# Altium footprint library Net-Tie-I2.PcbLib: 50 footprints (part 3 of 4)
Each footprint in its own frame and in the unit in brackets; x right, y up, seen from the top. Pads: shape width x height; smd on the part's side, far side on the other; paste and mask are expansions set on the pad; w line width, h text height; cw(c..) or ccw(c..) is an arc to the next point about the centre after c.
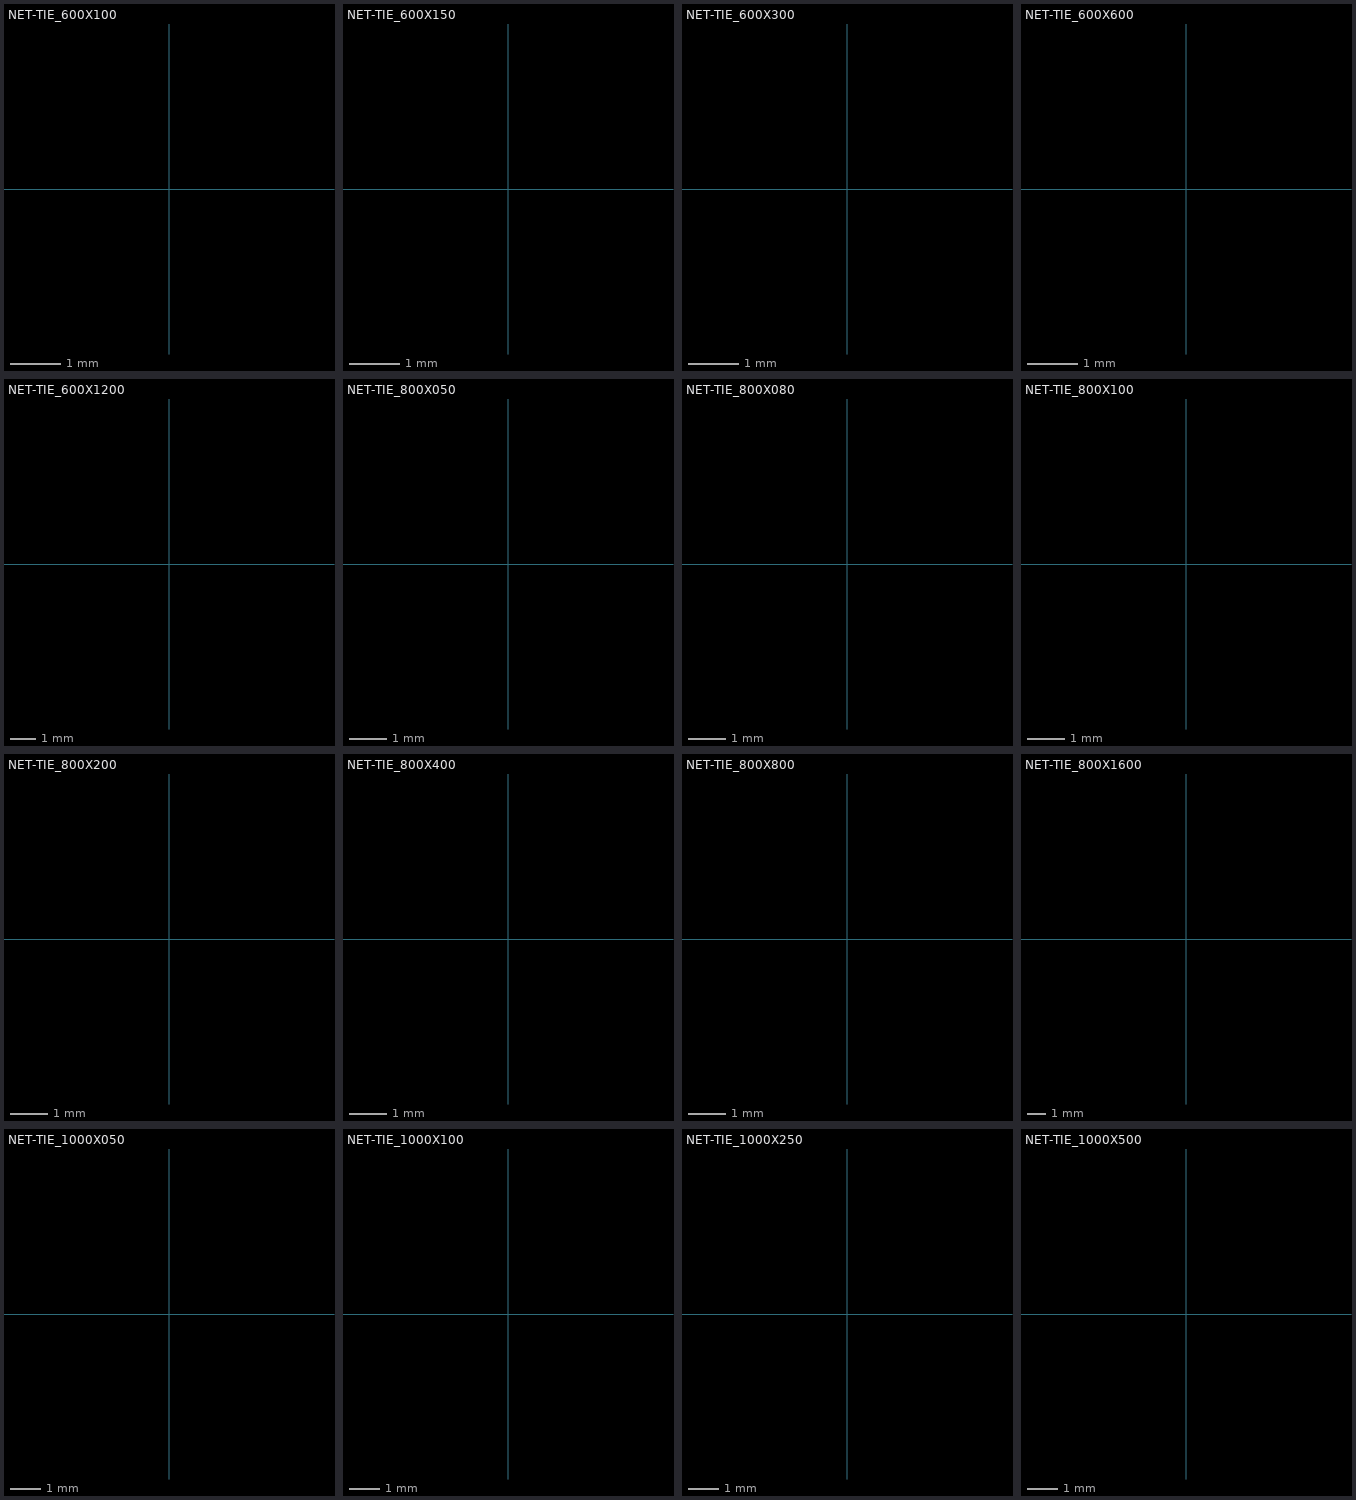
[diagram p2: the footprints below, top view; thin cyan lines are the x and y axes]

## NET-TIE_600X100 [mil]
pads (2):
  round 1 on Mid2 paste-99999 mask+4: 1(-9.84,0) 2(9.84,0)
Inner 2:
  region: -19.68,-108.27 -19.68,-109.24 -19.31,-111.14 -18.56,-112.93 -17.49,-114.54 -16.12,-115.91 -14.5,-116.99 -12.71,-117.73 -10.81,-118.11 -9.84,-118.11 0,-118.11 0,118.11 -9.84,118.11 -10.81,118.11 -12.71,117.73 -14.5,116.99 -16.12,115.91 -17.49,114.54 -18.56,112.93 -19.31,111.14 -19.68,109.24 -19.68,108.27
  region: 9.84,-118.11 0,-118.11 0,118.11 9.84,118.11 10.81,118.11 12.71,117.73 14.5,116.99 16.12,115.91 17.49,114.54 18.56,112.93 19.31,111.14 19.68,109.24 19.68,108.27 19.68,-108.27 19.68,-109.24 19.31,-111.14 18.56,-112.93 17.49,-114.54 16.12,-115.91 14.5,-116.99 12.71,-117.73 10.81,-118.11

## NET-TIE_600X150 [mil]
pads (2):
  round 1 on Mid2 paste-99999 mask+4: 1(-14.76,0) 2(14.76,0)
Inner 2:
  region: 14.76,-118.11 0,-118.11 0,118.11 14.76,118.11 16.22,118.11 19.07,117.54 21.76,116.43 24.18,114.81 26.23,112.76 27.85,110.34 28.96,107.65 29.53,104.8 29.53,103.35 29.53,-103.35 29.53,-104.8 28.96,-107.65 27.85,-110.34 26.23,-112.76 24.18,-114.81 21.76,-116.43 19.07,-117.54 16.22,-118.11
  region: -29.53,-103.35 -29.53,-104.8 -28.96,-107.65 -27.85,-110.34 -26.23,-112.76 -24.18,-114.81 -21.76,-116.43 -19.07,-117.54 -16.22,-118.11 -14.76,-118.11 0,-118.11 0,118.11 -14.76,118.11 -16.22,118.11 -19.07,117.54 -21.76,116.43 -24.18,114.81 -26.23,112.76 -27.85,110.34 -28.96,107.65 -29.53,104.8 -29.53,103.35

## NET-TIE_600X300 [mil]
pads (2):
  round 1 on Mid2 paste-99999 mask+4: 1(-29.53,0) 2(29.53,0)
Inner 2:
  region: 29.53,-118.11 0,-118.11 0,118.11 29.53,118.11 31.46,118.11 35.3,117.61 39.04,116.6 42.62,115.12 45.97,113.19 49.04,110.83 51.78,108.09 54.13,105.02 56.07,101.67 57.55,98.09 58.55,94.36 59.06,90.52 59.06,88.58 59.06,-88.58 59.06,-90.52 58.55,-94.36 57.55,-98.09 56.07,-101.67 54.13,-105.02 51.78,-108.09 49.04,-110.83 45.97,-113.19 42.62,-115.12 39.04,-116.6 35.3,-117.61 31.46,-118.11
  region: -59.06,-88.58 -59.06,-90.52 -58.55,-94.36 -57.55,-98.09 -56.07,-101.67 -54.13,-105.02 -51.78,-108.09 -49.04,-110.83 -45.97,-113.19 -42.62,-115.12 -39.04,-116.6 -35.3,-117.61 -31.46,-118.11 -29.53,-118.11 0,-118.11 0,118.11 -29.53,118.11 -31.46,118.11 -35.3,117.61 -39.04,116.6 -42.62,115.12 -45.97,113.19 -49.04,110.83 -51.78,108.09 -54.13,105.02 -56.07,101.67 -57.55,98.09 -58.55,94.36 -59.06,90.52 -59.06,88.58

## NET-TIE_600X600 [mil]
pads (2):
  round 1 on Mid2 paste-99999 mask+4: 1(-59.06,0) 2(59.06,0)
Inner 2:
  region: 59.06,-118.11 0,-118.11 0,118.11 59.06,118.11 61.96,118.11 67.73,117.54 73.42,116.41 78.97,114.73 84.33,112.5 89.45,109.77 94.28,106.55 98.76,102.86 102.86,98.76 106.55,94.28 109.77,89.45 112.5,84.33 114.73,78.97 116.41,73.42 117.54,67.73 118.11,61.96 118.11,59.06 118.11,-59.06 118.11,-61.96 117.54,-67.73 116.41,-73.42 114.73,-78.97 112.5,-84.33 109.77,-89.45 106.55,-94.28 102.86,-98.76 98.76,-102.86 94.28,-106.55 89.45,-109.77 84.33,-112.5 78.97,-114.73 73.42,-116.41 67.73,-117.54 61.96,-118.11
  region: -118.11,-59.06 -118.11,-61.96 -117.54,-67.73 -116.41,-73.42 -114.73,-78.97 -112.5,-84.33 -109.77,-89.45 -106.55,-94.28 -102.86,-98.76 -98.76,-102.86 -94.28,-106.55 -89.45,-109.77 -84.33,-112.5 -78.97,-114.73 -73.42,-116.41 -67.73,-117.54 -61.96,-118.11 -59.06,-118.11 0,-118.11 0,118.11 -59.06,118.11 -61.96,118.11 -67.73,117.54 -73.42,116.41 -78.97,114.73 -84.33,112.5 -89.45,109.77 -94.28,106.55 -98.76,102.86 -102.86,98.76 -106.55,94.28 -109.77,89.45 -112.5,84.33 -114.73,78.97 -116.41,73.42 -117.54,67.73 -118.11,61.96 -118.11,59.06

## NET-TIE_600X1200 [mil]
pads (2):
  round 1 on Mid2 paste-99999 mask+4: 1(-118.11,0) 2(118.11,0)
Inner 2:
  region: 118.11,-118.11 0,-118.11 0,118.11 118.11,118.11 122.75,118.11 132,117.38 141.17,115.93 150.19,113.76 159.02,110.9 167.6,107.34 175.87,103.13 183.78,98.28 191.29,92.83 198.35,86.8 204.91,80.24 210.94,73.18 216.39,65.67 221.24,57.76 225.45,49.49 229.01,40.91 231.87,32.08 234.04,23.06 235.49,13.89 236.22,4.64 236.22,0 236.22,-4.64 235.49,-13.89 234.04,-23.06 231.87,-32.08 229.01,-40.91 225.45,-49.49 221.24,-57.76 216.39,-65.67 210.94,-73.18 204.91,-80.24 198.35,-86.8 191.29,-92.83 183.78,-98.28 175.87,-103.13 167.6,-107.34 159.02,-110.9 150.19,-113.76 141.17,-115.93 132,-117.38 122.75,-118.11
  region: -118.11,-118.11 -122.75,-118.11 -132,-117.38 -141.17,-115.93 -150.19,-113.76 -159.02,-110.9 -167.6,-107.34 -175.87,-103.13 -183.78,-98.28 -191.29,-92.83 -198.35,-86.8 -204.91,-80.24 -210.94,-73.18 -216.39,-65.67 -221.24,-57.76 -225.45,-49.49 -229.01,-40.91 -231.87,-32.08 -234.04,-23.06 -235.49,-13.89 -236.22,-4.64 -236.22,0 -236.22,4.64 -235.49,13.89 -234.04,23.06 -231.87,32.08 -229.01,40.91 -225.45,49.49 -221.24,57.76 -216.39,65.67 -210.94,73.18 -204.91,80.24 -198.35,86.8 -191.29,92.83 -183.78,98.28 -175.87,103.13 -167.6,107.34 -159.02,110.9 -150.19,113.76 -141.17,115.93 -132,117.38 -122.75,118.11 -118.11,118.11 0,118.11 0,-118.11

## NET-TIE_800X050 [mil]
pads (2):
  round 1 on Mid2 paste-99999 mask+4: 1(-4.92,0) 2(4.92,0)
Inner 2:
  region: -9.84,-152.56 -9.84,-153.54 -9.09,-155.35 -7.71,-156.73 -5.9,-157.48 -4.92,-157.48 0,-157.48 0,157.48 -4.92,157.48 -5.9,157.48 -7.71,156.73 -9.09,155.35 -9.84,153.54 -9.84,152.56
  region: 4.92,-157.48 0,-157.48 0,157.48 4.92,157.48 5.9,157.48 7.71,156.73 9.09,155.35 9.84,153.54 9.84,152.56 9.84,-152.56 9.84,-153.54 9.09,-155.35 7.71,-156.73 5.9,-157.48

## NET-TIE_800X080 [mil]
pads (2):
  round 1 on Mid2 paste-99999 mask+4: 1(-7.87,0) 2(7.87,0)
Inner 2:
  region: -15.75,-149.61 -15.75,-150.38 -15.45,-151.9 -14.85,-153.34 -13.99,-154.63 -12.89,-155.72 -11.6,-156.58 -10.17,-157.18 -8.65,-157.48 -7.87,-157.48 0,-157.48 0,157.48 -7.87,157.48 -8.65,157.48 -10.17,157.18 -11.6,156.58 -12.89,155.72 -13.99,154.63 -14.85,153.34 -15.45,151.9 -15.75,150.38 -15.75,149.61
  region: 7.87,-157.48 0,-157.48 0,157.48 7.87,157.48 8.65,157.48 10.17,157.18 11.6,156.58 12.89,155.72 13.99,154.63 14.85,153.34 15.45,151.9 15.75,150.38 15.75,149.61 15.75,-149.61 15.75,-150.38 15.45,-151.9 14.85,-153.34 13.99,-154.63 12.89,-155.72 11.6,-156.58 10.17,-157.18 8.65,-157.48

## NET-TIE_800X100 [mil]
pads (2):
  round 1 on Mid2 paste-99999 mask+4: 1(-9.84,0) 2(9.84,0)
Inner 2:
  region: -19.68,-147.64 -19.68,-148.61 -19.31,-150.51 -18.56,-152.3 -17.49,-153.91 -16.12,-155.28 -14.5,-156.36 -12.71,-157.1 -10.81,-157.48 -9.84,-157.48 0,-157.48 0,157.48 -9.84,157.48 -10.81,157.48 -12.71,157.1 -14.5,156.36 -16.12,155.28 -17.49,153.91 -18.56,152.3 -19.31,150.51 -19.68,148.61 -19.68,147.64
  region: 9.84,-157.48 0,-157.48 0,157.48 9.84,157.48 10.81,157.48 12.71,157.1 14.5,156.36 16.12,155.28 17.49,153.91 18.56,152.3 19.31,150.51 19.68,148.61 19.68,147.64 19.68,-147.64 19.68,-148.61 19.31,-150.51 18.56,-152.3 17.49,-153.91 16.12,-155.28 14.5,-156.36 12.71,-157.1 10.81,-157.48

## NET-TIE_800X200 [mil]
pads (2):
  round 1 on Mid2 paste-99999 mask+4: 1(-19.68,0) 2(19.68,0)
Inner 2:
  region: 19.68,-157.48 0,-157.48 0,157.48 19.68,157.48 21.62,157.48 25.43,156.72 29.01,155.24 32.23,153.09 34.98,150.34 37.13,147.12 38.61,143.54 39.37,139.73 39.37,137.8 39.37,-137.8 39.37,-139.73 38.61,-143.54 37.13,-147.12 34.98,-150.34 32.23,-153.09 29.01,-155.24 25.43,-156.72 21.62,-157.48
  region: -39.37,-137.8 -39.37,-139.73 -38.61,-143.54 -37.13,-147.12 -34.98,-150.34 -32.23,-153.09 -29.01,-155.24 -25.43,-156.72 -21.62,-157.48 -19.68,-157.48 0,-157.48 0,157.48 -19.68,157.48 -21.62,157.48 -25.43,156.72 -29.01,155.24 -32.23,153.09 -34.98,150.34 -37.13,147.12 -38.61,143.54 -39.37,139.73 -39.37,137.8

## NET-TIE_800X400 [mil]
pads (2):
  round 1 on Mid2 paste-99999 mask+4: 1(-39.37,0) 2(39.37,0)
Inner 2:
  region: 39.37,-157.48 0,-157.48 0,157.48 39.37,157.48 41.95,157.48 47.07,156.81 52.05,155.47 56.82,153.5 61.29,150.92 65.38,147.77 69.03,144.12 72.18,140.03 74.76,135.56 76.73,130.79 78.07,125.81 78.74,120.69 78.74,118.11 78.74,-118.11 78.74,-120.69 78.07,-125.81 76.73,-130.79 74.76,-135.56 72.18,-140.03 69.03,-144.12 65.38,-147.77 61.29,-150.92 56.82,-153.5 52.05,-155.47 47.07,-156.81 41.95,-157.48
  region: -78.74,-118.11 -78.74,-120.69 -78.07,-125.81 -76.73,-130.79 -74.76,-135.56 -72.18,-140.03 -69.03,-144.12 -65.38,-147.77 -61.29,-150.92 -56.82,-153.5 -52.05,-155.47 -47.07,-156.81 -41.95,-157.48 -39.37,-157.48 0,-157.48 0,157.48 -39.37,157.48 -41.95,157.48 -47.07,156.81 -52.05,155.47 -56.82,153.5 -61.29,150.92 -65.38,147.77 -69.03,144.12 -72.18,140.03 -74.76,135.56 -76.73,130.79 -78.07,125.81 -78.74,120.69 -78.74,118.11

## NET-TIE_800X800 [mil]
pads (2):
  round 1 on Mid2 paste-99999 mask+4: 1(-78.74,0) 2(78.74,0)
Inner 2:
  region: -157.48,-78.74 -157.48,-82.61 -156.72,-90.31 -155.21,-97.9 -152.97,-105.3 -150.01,-112.45 -146.36,-119.27 -142.06,-125.7 -137.15,-131.68 -131.68,-137.15 -125.7,-142.06 -119.27,-146.36 -112.45,-150.01 -105.3,-152.97 -97.9,-155.21 -90.31,-156.72 -82.61,-157.48 -78.74,-157.48 0,-157.48 0,157.48 -78.74,157.48 -82.61,157.48 -90.31,156.72 -97.9,155.21 -105.3,152.97 -112.45,150.01 -119.27,146.36 -125.7,142.06 -131.68,137.15 -137.15,131.68 -142.06,125.7 -146.36,119.27 -150.01,112.45 -152.97,105.3 -155.21,97.9 -156.72,90.31 -157.48,82.61 -157.48,78.74
  region: 78.74,-157.48 0,-157.48 0,157.48 78.74,157.48 82.61,157.48 90.31,156.72 97.9,155.21 105.3,152.97 112.45,150.01 119.27,146.36 125.7,142.06 131.68,137.15 137.15,131.68 142.06,125.7 146.36,119.27 150.01,112.45 152.97,105.3 155.21,97.9 156.72,90.31 157.48,82.61 157.48,78.74 157.48,-78.74 157.48,-82.61 156.72,-90.31 155.21,-97.9 152.97,-105.3 150.01,-112.45 146.36,-119.27 142.06,-125.7 137.15,-131.68 131.68,-137.15 125.7,-142.06 119.27,-146.36 112.45,-150.01 105.3,-152.97 97.9,-155.21 90.31,-156.72 82.61,-157.48

## NET-TIE_800X1600 [mil]
pads (2):
  round 1 on Mid2 paste-99999 mask+4: 1(-157.48,0) 2(157.48,0)
Inner 2:
  region: 157.48,-157.48 0,-157.48 0,157.48 157.48,157.48 162.64,157.48 172.92,156.81 183.15,155.46 193.26,153.45 203.22,150.78 212.98,147.47 222.51,143.52 231.76,138.96 240.69,133.8 249.26,128.08 257.44,121.8 265.19,115 272.48,107.71 279.28,99.96 285.56,91.78 291.28,83.2 296.44,74.28 301,65.03 304.95,55.5 308.26,45.74 310.93,35.78 312.94,25.67 314.29,15.44 314.96,5.16 314.96,0 314.96,-5.16 314.29,-15.44 312.94,-25.67 310.93,-35.78 308.26,-45.74 304.95,-55.5 301,-65.03 296.44,-74.28 291.28,-83.2 285.56,-91.78 279.28,-99.96 272.48,-107.71 265.19,-115 257.44,-121.8 249.26,-128.08 240.69,-133.8 231.76,-138.96 222.51,-143.52 212.98,-147.47 203.22,-150.78 193.26,-153.45 183.15,-155.46 172.92,-156.81 162.64,-157.48
  region: -157.48,-157.48 -162.64,-157.48 -172.92,-156.81 -183.15,-155.46 -193.26,-153.45 -203.22,-150.78 -212.98,-147.47 -222.51,-143.52 -231.76,-138.96 -240.69,-133.8 -249.26,-128.08 -257.44,-121.8 -265.19,-115 -272.48,-107.71 -279.28,-99.96 -285.56,-91.78 -291.28,-83.2 -296.44,-74.28 -301,-65.03 -304.95,-55.5 -308.26,-45.74 -310.93,-35.78 -312.94,-25.67 -314.29,-15.44 -314.96,-5.16 -314.96,0 -314.96,5.16 -314.29,15.44 -312.94,25.67 -310.93,35.78 -308.26,45.74 -304.95,55.5 -301,65.03 -296.44,74.28 -291.28,83.2 -285.56,91.78 -279.28,99.96 -272.48,107.71 -265.19,115 -257.44,121.8 -249.26,128.08 -240.69,133.8 -231.76,138.96 -222.51,143.52 -212.98,147.47 -203.22,150.78 -193.26,153.45 -183.15,155.46 -172.92,156.81 -162.64,157.48 -157.48,157.48 0,157.48 0,-157.48

## NET-TIE_1000X050 [mil]
pads (2):
  round 1 on Mid2 paste-99999 mask+4: 1(-4.92,0) 2(4.92,0)
Inner 2:
  region: -9.84,-191.93 -9.84,-192.91 -9.09,-194.72 -7.71,-196.1 -5.9,-196.85 -4.92,-196.85 0,-196.85 0,196.85 -4.92,196.85 -5.9,196.85 -7.71,196.1 -9.09,194.72 -9.84,192.91 -9.84,191.93
  region: 4.92,-196.85 0,-196.85 0,196.85 4.92,196.85 5.9,196.85 7.71,196.1 9.09,194.72 9.84,192.91 9.84,191.93 9.84,-191.93 9.84,-192.91 9.09,-194.72 7.71,-196.1 5.9,-196.85

## NET-TIE_1000X100 [mil]
pads (2):
  round 1 on Mid2 paste-99999 mask+4: 1(-9.84,0) 2(9.84,0)
Inner 2:
  region: -19.68,-187.01 -19.68,-187.98 -19.31,-189.88 -18.56,-191.67 -17.49,-193.28 -16.12,-194.65 -14.5,-195.73 -12.71,-196.47 -10.81,-196.85 -9.84,-196.85 0,-196.85 0,196.85 -9.84,196.85 -10.81,196.85 -12.71,196.47 -14.5,195.73 -16.12,194.65 -17.49,193.28 -18.56,191.67 -19.31,189.88 -19.68,187.98 -19.68,187.01
  region: 9.84,-196.85 0,-196.85 0,196.85 9.84,196.85 10.81,196.85 12.71,196.47 14.5,195.73 16.12,194.65 17.49,193.28 18.56,191.67 19.31,189.88 19.68,187.98 19.68,187.01 19.68,-187.01 19.68,-187.98 19.31,-189.88 18.56,-191.67 17.49,-193.28 16.12,-194.65 14.5,-195.73 12.71,-196.47 10.81,-196.85

## NET-TIE_1000X250 [mil]
pads (2):
  round 1 on Mid2 paste-99999 mask+4: 1(-24.61,0) 2(24.61,0)
Inner 2:
  region: -49.21,-172.24 -49.21,-173.86 -48.79,-177.05 -47.96,-180.17 -46.72,-183.15 -45.11,-185.94 -43.15,-188.5 -40.87,-190.78 -38.31,-192.75 -35.51,-194.36 -32.53,-195.59 -29.42,-196.43 -26.22,-196.85 -24.61,-196.85 0,-196.85 0,196.85 -24.61,196.85 -26.22,196.85 -29.42,196.43 -32.53,195.59 -35.51,194.36 -38.31,192.75 -40.87,190.78 -43.15,188.5 -45.11,185.94 -46.72,183.15 -47.96,180.17 -48.79,177.05 -49.21,173.86 -49.21,172.24
  region: 24.61,-196.85 0,-196.85 0,196.85 24.61,196.85 26.22,196.85 29.42,196.43 32.53,195.59 35.51,194.36 38.31,192.75 40.87,190.78 43.15,188.5 45.11,185.94 46.72,183.15 47.96,180.17 48.79,177.05 49.21,173.86 49.21,172.24 49.21,-172.24 49.21,-173.86 48.79,-177.05 47.96,-180.17 46.72,-183.15 45.11,-185.94 43.15,-188.5 40.87,-190.78 38.31,-192.75 35.51,-194.36 32.53,-195.59 29.42,-196.43 26.22,-196.85

## NET-TIE_1000X500 [mil]
pads (2):
  round 1 on Mid2 paste-99999 mask+4: 1(-49.21,0) 2(49.21,0)
Inner 2:
  region: -98.43,-147.64 -98.43,-150.06 -97.95,-154.87 -97.01,-159.61 -95.6,-164.24 -93.75,-168.7 -91.47,-172.97 -88.79,-176.99 -85.72,-180.73 -82.3,-184.15 -78.56,-187.21 -74.54,-189.9 -70.28,-192.18 -65.81,-194.03 -61.18,-195.43 -56.44,-196.38 -51.63,-196.85 -49.21,-196.85 0,-196.85 0,196.85 -49.21,196.85 -51.63,196.85 -56.44,196.38 -61.18,195.43 -65.81,194.03 -70.28,192.18 -74.54,189.9 -78.56,187.21 -82.3,184.15 -85.72,180.73 -88.79,176.99 -91.47,172.97 -93.75,168.7 -95.6,164.24 -97.01,159.61 -97.95,154.87 -98.43,150.06 -98.43,147.64
  region: 49.21,-196.85 0,-196.85 0,196.85 49.21,196.85 51.63,196.85 56.44,196.38 61.18,195.43 65.81,194.03 70.28,192.18 74.54,189.9 78.56,187.21 82.3,184.15 85.72,180.73 88.79,176.99 91.47,172.97 93.75,168.7 95.6,164.24 97.01,159.61 97.95,154.87 98.43,150.06 98.43,147.64 98.43,-147.64 98.43,-150.06 97.95,-154.87 97.01,-159.61 95.6,-164.24 93.75,-168.7 91.47,-172.97 88.79,-176.99 85.72,-180.73 82.3,-184.15 78.56,-187.21 74.54,-189.9 70.28,-192.18 65.81,-194.03 61.18,-195.43 56.44,-196.38 51.63,-196.85